# EAGLE library part OPAMP-QUAD (library OPAMP)
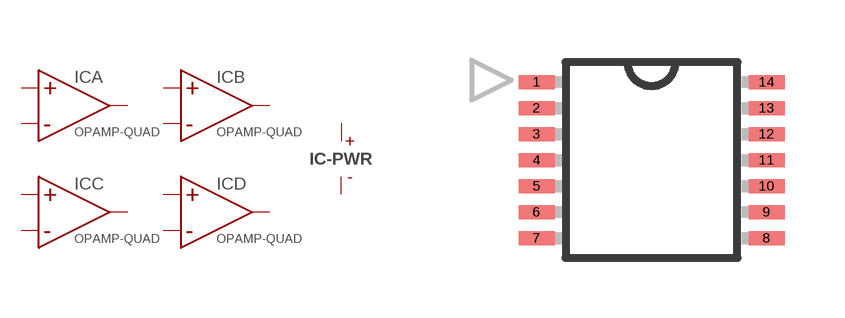
[diagram p1: symbol with the pads of TSSOP14; footprint TSSOP14]

Designator prefix IC; gates A=OPAMP B=OPAMP C=OPAMP D=OPAMP -PWR=PWR-1

## OPAMP-QUADPW  [TSSOP14]
1  A:OUT  out
2  A:INV  in
3  A:NINV  in
4  -PWR:VDD  pwr
5  B:NINV  in
6  B:INV  in
7  B:OUT  out
8  C:OUT  out
9  C:INV  in
10  C:NINV  in
11  -PWR:GND  pwr
12  D:NINV  in
13  D:INV  in
14  D:OUT  out

## Footprint TSSOP14 (pad centres in mm)
14-Lead Thin Shrink Small Outline Package [TSSOP] Source: Analog Devices .. 780914713ADD8704_0.pdf
smd 0.9 x 0.35: 1 -2.875,1.95; 2 -2.875,1.3; 3 -2.875,0.65; 4 -2.875,0; 5 -2.875,-0.65; 6 -2.875,-1.3; 7 -2.875,-1.95; 8 2.875,-1.95; 9 2.875,-1.3; 10 2.875,-0.65; 11 2.875,0; 12 2.875,0.65; 13 2.875,1.3; 14 2.875,1.95